# EAGLE library part LM75A (library PCB_KioskMB_r3.3-05)
Digital temperature sensor and thermal watchdog - I2C, Pwr supp. 2.8 V to 5.5 V, Temp. range -55°C to +125°C, 11bit ADC, 3.5 µA in shutdown mode
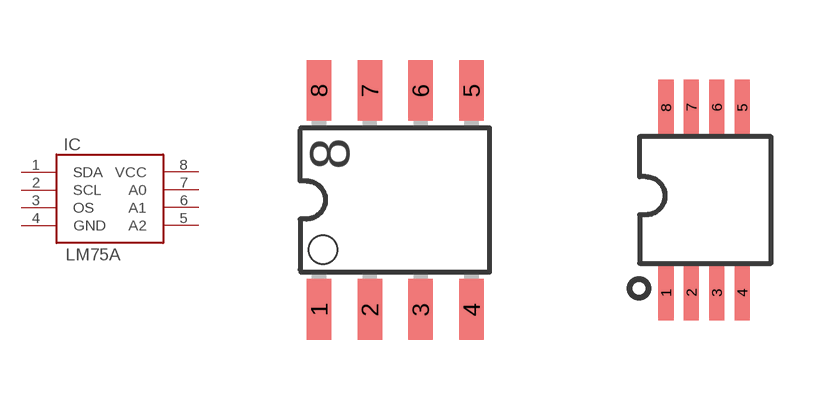
[diagram p20: symbol with the pads of SO-08; footprints SO-08, TSSOP08-3]

Designator prefix IC

## LM75AD  [SO-08]
1  SDA
2  SCL  in
3  OS  out
4  GND  sup
5  A2  in
6  A1  in
7  A0  in
8  VCC  sup

## LM75ADP  [TSSOP08-3]
Pads as for SO-08

## Footprint SO-08 (pad centres in mm)
smd 0.61 x 1.524: 1 -1.905,-2.743; 2 -0.635,-2.743; 3 0.635,-2.743; 4 1.905,-2.743; 5 1.905,2.743; 6 0.635,2.743; 7 -0.635,2.743; 8 -1.905,2.743

## Footprint TSSOP08-3 (pad centres in mm)
BSC 0.65 non standard TSSOP 3mm
smd 0.38 x 1.4: 1 -0.94,-2.343; 2 -0.305,-2.343; 3 0.33,-2.343; 4 0.965,-2.343; 5 0.965,2.292; 6 0.33,2.292; 7 -0.305,2.292; 8 -0.94,2.292